# EAGLE library part TDA1560Q (library Audio-Power-amlifier V.2.0)
The TDA1560Q is an integrated Bridge-Tied Load (BTL) class-H high power amplifier. In a load of 8 Ω , the output power is 40 W typical at a THD of 10%.
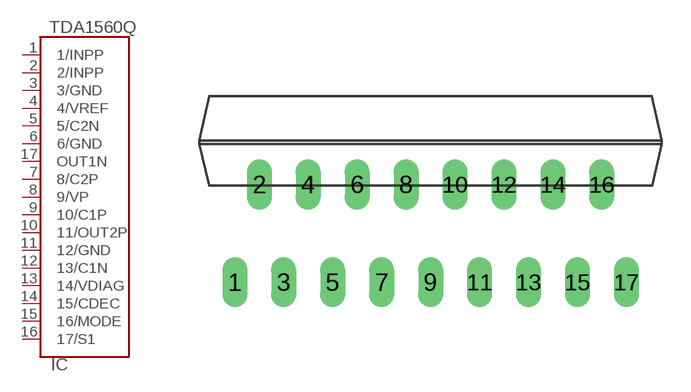
[diagram p10: symbol with the pads of SOT243-1; footprint SOT243-1]

Designator prefix IC

## TDA1560Q  [SOT243-1]
1  1/INPP  in
2  2/INPP  in
3  3/GND  pwr
4  4/VREF
5  5/C2N
6  6/GND  pwr
7  8/C2P
8  9/VP  pwr
9  10/C1P
10  11/OUT2P  out
11  12/GND  pwr
12  13/C1N
13  14/VDIAG  out
14  15/CDEC
15  16/MODE  in
16  17/S1  in
17  OUT1N  out

## Footprint SOT243-1 (pad centres in mm)
DBS17P: plastic DIL-bent-SIL power package; 17 leads (lead length 7.7 mm)
drill 0.8 long: 1 -10.16,-5.08; 2 -8.89,0; 3 -7.62,-5.08; 4 -6.35,0; 5 -5.08,-5.08; 6 -3.81,0; 7 -2.54,-5.08; 8 -1.27,0; 9 0,-5.08; 10 1.27,0; 11 2.54,-5.08; 12 3.81,0; 13 5.08,-5.08; 14 6.35,0; 15 7.62,-5.08; 16 8.89,0; 17 10.17,-5.08